# Altium schematic symbol library Communication_Interfaces_CAN_GOST.SchLib: 1 symbol
Pins are listed as number, name and electrical type; pins without a type are passive.

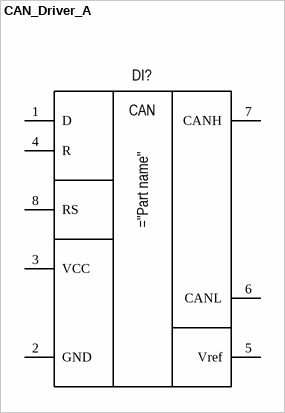
[diagram p0: symbol CAN_Driver_A]

## CAN_Driver_A
designator DI?
pins: 1 D, 2 GND, 3 VCC, 4 R, 5 Vref, 6 CANL, 7 CANH, 8 RS
text: CAN